# EAGLE library part GT12002 (library work)
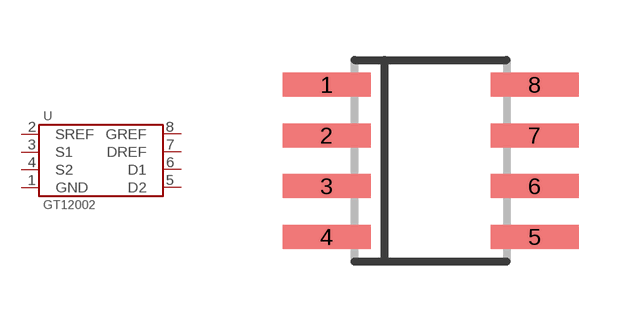
[diagram p90: symbol with the pads of SO8; footprint SO8]

Designator prefix U

## GT12002  [SO8]
1  GND
2  SREF
3  S1
4  S2
5  D2
6  D1
7  DREF
8  GREF

## Footprint SO8 (pad centres in mm)
smd 2.2 x 0.6: 1 -2.6,1.905; 2 -2.6,0.635; 3 -2.6,-0.635; 4 -2.6,-1.905; 5 2.6,-1.905; 6 2.6,-0.635; 7 2.6,0.635; 8 2.6,1.905